# Altium footprint library PCB11.PcbLib: 36 footprints (part 2 of 3)
Each footprint in its own frame and in the unit in brackets; x right, y up, seen from the top. Pads: shape width x height; smd on the part's side, far side on the other; paste and mask are expansions set on the pad; w line width, h text height; cw(c..) or ccw(c..) is an arc to the next point about the centre after c.
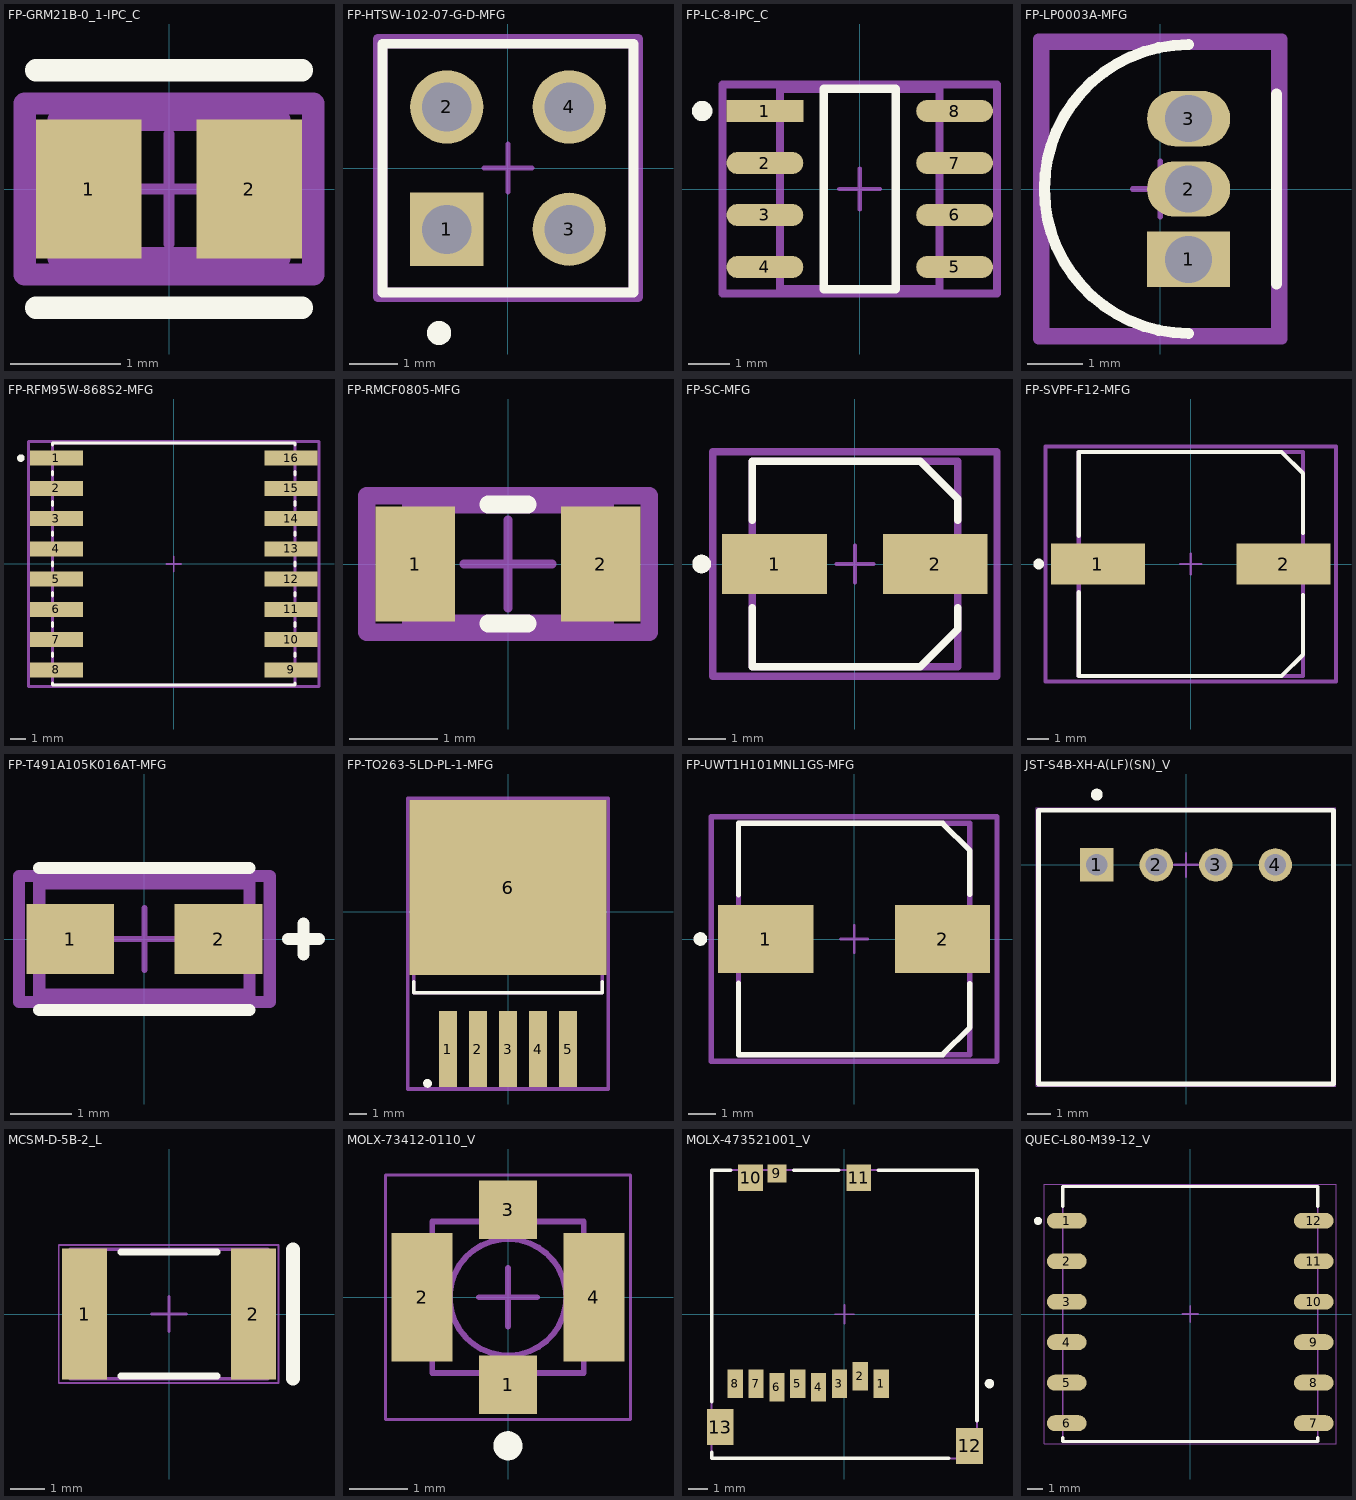
[diagram p1: the footprints below, top view; thin cyan lines are the x and y axes]

## FP-GRM21B-0_1-IPC_C [mm]
pads (2):
  rect 0.958x1.262 smd paste+0 mask+0: 1(-0.727,0) 2(0.727,0)
Top Overlay:
  lines w0.2: -1.206,-1.075 1.206,-1.075 ; -1.206,1.075 1.206,1.075
Top Assembly:
  lines w0.2: -1.306,-0.775 1.306,-0.775 1.306,0.775 -1.306,0.775 -1.306,-0.775
Top 3D Body:
  lines w0.2: -1,-0.625 1,-0.625 1,0.625 -1,0.625 -1,-0.625
Top Courtyard:
  lines w0.2: -1.306,-0.775 1.306,-0.775 1.306,0.775 -1.306,0.775 -1.306,-0.775
Top Component Center:
  lines w0.1: -0.5,0 0.5,0 ; 0,-0.5 0,0.5
3D body "Cap_Murata_GRM21BR61C106KE15K_eec.STEP": height 0.25, standoff 0, extent -1.306,-0.775 1.306,0.775

## FP-HTSW-102-07-G-D-MFG [mm]
pads (4):
  rect 1.52x1.52 hole 1.02 paste-1000 mask+0: 1(-1.27,-1.27)
  round 1.52 hole 1.02 paste-1000 mask+0: 2(-1.27,1.27) 3(1.27,-1.27) 4(1.27,1.27)
Top Overlay:
  circle w0.25: c-1.43,-3.42 r0.125
  lines w0.2: -2.603,-2.58 2.603,-2.58 2.603,2.58 -2.603,2.58 -2.603,-2.58
Top Assembly:
  lines w0.2: -2.703,-2.68 2.704,-2.68 2.704,2.68 -2.703,2.68 -2.703,-2.68
  text ".Designator" at 0,0.188 h1
Top 3D Body:
  lines w0.2: -2.603,-2.58 2.603,-2.58 2.603,2.58 -2.603,2.58 -2.603,-2.58
Top Courtyard:
  lines w0.2: -2.703,-2.68 2.704,-2.68 2.704,2.68 -2.703,2.68 -2.703,-2.68
Top Component Center:
  lines w0.1: -0.5,0 0.5,0 ; 0,-0.5 0,0.5
3D body "Conn_Samtec_HTSW-102-07-G-D_eec.STEP": height 0.25, standoff 0, extent -2.703,-2.68 2.703,2.68

## FP-LC-8-IPC_C [mm]
pads (8):
  rect 1.874x0.542 smd paste+0 mask+0: 1(-2.316,1.905)
  rrect100% 1.874x0.542 smd paste+0 mask+0: 2(-2.316,0.635) 3(-2.316,-0.635) 4(-2.316,-1.905) 5(2.316,-1.905) 6(2.316,-0.635) 7(2.316,0.635) 8(2.316,1.905)
Top Overlay:
  circle w0.25: c-3.85,1.905 r0.125
  lines w0.2: -0.879,-2.45 -0.879,2.45 0.879,2.45 0.879,-2.45 -0.879,-2.45
Top Assembly:
  lines w0.2: -3.353,-2.55 -3.353,2.55 3.353,2.55 3.353,-2.55 -3.353,-2.55
Top 3D Body:
  lines w0.2: -1.95,-2.45 -1.95,2.45 1.95,2.45 1.95,-2.45 -1.95,-2.45
Top Courtyard:
  lines w0.2: -3.353,-2.55 -3.353,2.55 3.353,2.55 3.353,-2.55 -3.353,-2.55
Top Component Center:
  lines w0.1: -0.5,0 0.5,0 ; 0,-0.5 0,0.5
3D body "IC_Allegro_MicroSystems_LLC_ACS713ELCTR-30A-T_eec.STEP": height 0.25, standoff 0, extent -3.353,-2.55 3.353,2.55

## FP-LP0003A-MFG [mm]
pads (3):
  rect 1.5x1 hole 0.85 paste-1000 mask+0: 1(0.51,-1.27)
  rrect100% 1.5x1 hole 0.85 paste-1000 mask+0: 2(0.51,0) 3(0.51,1.27)
Top Overlay:
  lines w0.2: 0.51,-2.605 cw(c0.515,0) 0.51,2.605 ; 2.095,-1.715 2.095,1.715
Top Assembly:
  lines w0.2: -2.195,-2.705 -2.195,2.705 2.195,2.705 2.195,-2.705 -2.195,-2.705
Top 3D Body:
  lines w0.2: -2.095,-2.605 -2.095,2.605 2.095,2.605 2.095,-2.605 -2.095,-2.605
Top Courtyard:
  lines w0.2: -2.195,-2.705 -2.195,2.705 2.195,2.705 2.195,-2.705 -2.195,-2.705
Top Component Center:
  lines w0.1: -0.5,0 0.5,0 ; 0,-0.5 0,0.5
3D body "IC_Texas_Instruments_LM34CZ-NOPB_eec.STEP": height 0.25, standoff 0, extent -2.195,-2.705 2.195,2.705

## FP-RFM95W-868S2-MFG [mm]
pads (16):
  rect 3.5x1 smd paste+0 mask+0: 1(-7.75,7) 2(-7.75,5) 3(-7.75,3) 4(-7.75,1) 5(-7.75,-1) 6(-7.75,-3) 7(-7.75,-5) 8(-7.75,-7) 9(7.75,-7) 10(7.75,-5) 11(7.75,-3) 12(7.75,-1) 13(7.75,1) 14(7.75,3) 15(7.75,5) 16(7.75,7)
Top Overlay:
  circle w0.25: c-10.1,7 r0.125
  lines w0.2: -8,-7.875 -8,-8 8,-8 8,-7.875 ; -8,-6.125 -8,-5.875 ; -8,-4.125 -8,-3.875 ; -8,-2.125 -8,-1.875 ; -8,-0.125 -8,0.125 ; -8,1.875 -8,2.125 ; -8,3.875 -8,4.125 ; -8,5.875 -8,6.125 ; -8,7.875 -8,8 8,8 8,7.875 ; 8,-6.125 8,-5.875 ; 8,-4.125 8,-3.875 ; 8,-2.125 8,-1.875 ; 8,-0.125 8,0.125 ; 8,1.875 8,2.125 ; 8,3.875 8,4.125 ; 8,5.875 8,6.125
Top Assembly:
  lines w0.2: -9.6,-8.1 -9.6,8.1 9.6,8.1 9.6,-8.1 -9.6,-8.1
Top 3D Body:
  lines w0.2: -8,-8 -8,8 8,8 8,-8 -8,-8
Top Courtyard:
  lines w0.2: -9.6,-8.1 -9.6,8.1 9.6,8.1 9.6,-8.1 -9.6,-8.1
Top Component Center:
  lines w0.1: -0.5,0 0.5,0 ; 0,-0.5 0,0.5
3D body "UNK_RF_Solutions_RFM95W-868S2_eec.STEP": height 0.25, standoff 0, extent -9.6,-8.1 9.6,8.1

## FP-RMCF0805-MFG [mm]
pads (2):
  rect 0.9x1.3 smd paste+0 mask+0: 1(-1.05,0) 2(1.05,0)
Top Overlay:
  lines w0.2: -0.225,-0.675 0.225,-0.675 ; -0.225,0.675 0.225,0.675
Top Assembly:
  lines w0.2: -1.6,-0.775 1.6,-0.775 1.6,0.775 -1.6,0.775 -1.6,-0.775
  text ".Designator" at 0,0.188 h1
Top 3D Body:
  lines w0.2: -1.1,-0.675 1.1,-0.675 1.1,0.675 -1.1,0.675 -1.1,-0.675
Top Courtyard:
  lines w0.2: -1.6,-0.775 1.6,-0.775 1.6,0.775 -1.6,0.775 -1.6,-0.775
Top Component Center:
  lines w0.1: -0.5,0 0.5,0 ; 0,-0.5 0,0.5
3D body "Res_Stackpole_Electronics_RMCF0805ZT0R00_eec.STEP": height 0.25, standoff 0, extent -1.6,-0.775 1.6,0.775

## FP-SC-MFG [mm]
pads (2):
  rect 2.8x1.6 smd paste+0 mask+0: 1(-2.15,0) 2(2.15,0)
Top Overlay:
  circle w0.25: c-4.1,0 r0.125
  lines w0.2: -2.75,-1.175 -2.75,-2.75 1.75,-2.75 2.75,-1.75 2.75,-1.175 ; -2.75,1.175 -2.75,2.75 1.75,2.75 2.75,1.75 2.75,1.175
Top Assembly:
  lines w0.2: -3.8,-3 -3.8,3 3.8,3 3.8,-3 -3.8,-3
Top 3D Body:
  lines w0.2: -2.75,-2.75 -2.75,2.75 2.75,2.75 2.75,-2.75 -2.75,-2.75
Top Courtyard:
  lines w0.2: -3.8,-3 -3.8,3 3.8,3 3.8,-3 -3.8,-3
Top Component Center:
  lines w0.1: -0.5,0 0.5,0 ; 0,-0.5 0,0.5
3D body "Cap_Panasonic_Electronic_Components_EEE-1AA101WR_eec.STEP": height 0.25, standoff 0, extent -3.8,-3 3.8,3

## FP-SVPF-F12-MFG [mm]
pads (2):
  rect 4.4x1.9 smd paste+0 mask+0: 1(-4.35,0) 2(4.35,0)
Top Overlay:
  circle w0.25: c-7.125,0 r0.125
  lines w0.2: -5.25,-1.325 -5.25,-5.25 4.25,-5.25 5.25,-4.25 5.25,-1.45 ; -5.25,1.325 -5.25,5.25 4.25,5.25 5.25,4.25 5.25,1.45
Top Assembly:
  lines w0.2: -6.8,-5.5 -6.8,5.5 6.8,5.5 6.8,-5.5 -6.8,-5.5
Top 3D Body:
  lines w0.2: -5.25,-5.25 -5.25,5.25 5.25,5.25 5.25,-5.25 -5.25,-5.25
Top Courtyard:
  lines w0.2: -6.8,-5.5 -6.8,5.5 6.8,5.5 6.8,-5.5 -6.8,-5.5
Top Component Center:
  lines w0.1: -0.5,0 0.5,0 ; 0,-0.5 0,0.5
3D body "Cap_Panasonic_16SVPF1000M_eec.STEP": height 0.25, standoff 0, extent -6.8,-5.5 6.8,5.5

## FP-T491A105K016AT-MFG [mm]
pads (2):
  rect 1.42x1.13 smd paste+0 mask+0: 1(-1.2,0) 2(1.2,0)
Top Overlay:
  lines w0.2: -1.7,-1.15 1.7,-1.15 ; -1.7,1.15 1.7,1.15 ; 2.325,0 2.825,0 ; 2.575,-0.25 2.575,0.25
Top Assembly:
  lines w0.2: -2.03,-1.02 -2.03,1.02 2.03,1.02 2.03,-1.02 -2.03,-1.02
Top 3D Body:
  lines w0.2: -1.7,-0.9 -1.7,0.9 1.7,0.9 1.7,-0.9 -1.7,-0.9
Top Courtyard:
  lines w0.2: -2.03,-1.02 -2.03,1.02 2.03,1.02 2.03,-1.02 -2.03,-1.02
Top Component Center:
  lines w0.1: -0.5,0 0.5,0 ; 0,-0.5 0,0.5
3D body "Cap_Kemet_T491A105K016AT_eec.STEP": height 0.25, standoff 0, extent -2.03,-1.02 2.03,1.02

## FP-TO263-5LD-PL-1-MFG [mm]
pads (6):
  rect 1.02x4.32 smd paste+0 mask+0: 1(-3.4,-7.79) 2(-1.7,-7.79) 3(0,-7.79) 4(1.7,-7.79) 5(3.4,-7.79)
  rect 11.18x9.91 smd paste+0 mask+0: 6(0,1.355)
Top Overlay:
  circle w0.25: c-4.559,-9.73 r0.125
  lines w0.2: -5.334,-3.975 -5.334,-4.584 5.334,-4.584 5.334,-3.975
Top Assembly:
  lines w0.2: -5.69,-10.05 -5.69,6.41 5.69,6.41 5.69,-10.05 -5.69,-10.05
Top 3D Body:
  lines w0.2: -5.334,-4.584 -5.334,4.584 5.334,4.584 5.334,-4.584 -5.334,-4.584
Top Courtyard:
  lines w0.2: -5.69,-10.05 -5.69,6.41 5.69,6.41 5.69,-10.05 -5.69,-10.05
Top Component Center:
  lines w0.1: -0.5,0 0.5,0 ; 0,-0.5 0,0.5
3D body "IC_Microchip_LM2576-12WU-TR_eec.STEP": height 0.25, standoff 0, extent -5.69,-10.05 5.69,6.41

## FP-UWT1H101MNL1GS-MFG [mm]
pads (2):
  rect 3.5x2.5 smd paste+0 mask+0: 1(-3.25,0) 2(3.25,0)
Top Overlay:
  circle w0.25: c-5.65,0 r0.125
  lines w0.2: -4.25,-1.625 -4.25,-4.25 3.25,-4.25 4.25,-3.25 4.25,-1.65 ; -4.25,1.625 -4.25,4.25 3.25,4.25 4.25,3.25 4.25,1.65
Top Assembly:
  lines w0.2: -5.25,-4.5 -5.25,4.5 5.25,4.5 5.25,-4.5 -5.25,-4.5
Top 3D Body:
  lines w0.2: -4.25,-4.25 -4.25,4.25 4.25,4.25 4.25,-4.25 -4.25,-4.25
Top Courtyard:
  lines w0.2: -5.25,-4.5 -5.25,4.5 5.25,4.5 5.25,-4.5 -5.25,-4.5
Top Component Center:
  lines w0.1: -0.5,0 0.5,0 ; 0,-0.5 0,0.5
3D body "Cap_Nichicon_UWT1H101MNL1GS_eec.STEP": height 0.25, standoff 0, extent -5.25,-4.5 5.25,4.5

## JST-S4B-XH-A(LF)(SN)_V [mm] "Header, 4-Leads, Body 12.4x11.5mm, Pitch 2.5mm"
height 6.1
pads (4):
  rect 1.4x1.4 hole 0.9: 1(-3.75,0)
  round 1.4 hole 0.9: 2(-1.25,0) 3(1.25,0) 4(3.75,0)
Top Overlay:
  circle w0.25: c-3.75,2.95 r0.125
  lines w0.2: -6.197,2.3 -6.2,2.3 ; -6.2,2.3 6.2,2.3 6.2,-9.2 -6.2,-9.2 -6.2,2.3
Top 3D Body:
  lines w0.1: -6.2,-9.2 -6.2,2.3 6.2,2.3 6.2,-9.2 -6.2,-9.2
Top Courtyard:
  lines w0.05: -6.3,-9.3 -6.3,2.4 6.3,2.4 6.3,-9.3 -6.3,-9.3
  lines w0.1: -0.5,0 0.5,0 ; 0,-0.5 0,0.5
3D body "S4B-XH-A.STEP": height 6.15, standoff -3.4, extent -6.2,-9.2 6.2,2.3

## MCSM-D-5B-2_L [mm] "MELF Diode, 2-Leads, Body 5.72x3.76mm, IPC High Density"
height 3.76
pads (2):
  rect 1.3x3.8 smd: 1(-2.45,0) 2(2.45,0)
Top Overlay:
  lines w0.2: -1.4,-1.8 1.4,-1.8 ; -1.4,1.8 1.4,1.8
  lines w0.4: 3.6,-1.88 3.6,1.88
Top 3D Body:
  lines w0.1: -2.86,-1.88 -2.86,1.88 2.86,1.88 2.86,-1.88 -2.86,-1.88
Top Courtyard:
  lines w0.05: -3.2,-2 -3.2,2 3.175,2 3.175,-2 -3.2,-2
  lines w0.1: -0.5,0 0.5,0 ; 0,-0.5 0,0.5
3D body "DIOMELF5436L.step": height 3.62, standoff 0, extent -2.7,-1.81 2.7,1.81

## MOLX-73412-0110_V [mm] "MCRF, 4-Leads, Body 2.6x2.6mm"
height 1.3
pads (4):
  rect 1x1 smd: 1(0,-1.5) 3(0,1.5)
  rect 1.05x2.2 smd: 2(-1.475,0) 4(1.475,0)
Top Overlay:
  circle w0.25: c0,-2.55 r0.125
Top 3D Body:
  circle w0.1: c0,0 r1
  lines w0.1: -1.299,-1.299 -1.299,1.3 1.3,1.3 1.3,-1.299 -1.299,-1.299
Top Courtyard:
  lines w0.05: -2.1,-2.1 2.1,-2.1 2.1,2.1 -2.1,2.1 -2.1,-2.1
  lines w0.1: -0.5,0 0.5,0 ; 0,-0.5 0,0.5
3D body: height 1, standoff 0.1, extent -0.254,-0.254 0.254,0.254
3D body: height 1.3, standoff 0.1, extent -1.126,-1.141 1.102,1.088
3D body: height 1.3, standoff 0.1, extent -1.124,-1.139 1.104,1.09
3D body: height 0.35, standoff 0, extent -1.299,-1.299 1.3,1.3

## MOLX-473521001_V [mm] "SMD, 8-Leads, Body 15.2x14mm, Pitch 1.1mm"
height 1.88
pads (13):
  rect 0.8x1.5 smd: 1(1.94,-3.66) 2(0.84,-3.26) 3(-0.26,-3.66) 4(-1.36,-3.86) 5(-2.46,-3.66) 6(-3.56,-3.86) 7(-4.66,-3.66) 8(-5.76,-3.66)
  rect 1x0.95 smd: 9(-3.56,7.425)
  rect 1.3x1.4 smd: 10(-4.95,7.2) 11(0.75,7.2)
  rect 1.4x1.9 smd: 12(6.6,-6.95) 13(-6.55,-5.95)
Top Overlay:
  circle w0.25: c7.65,-3.66 r0.125
  lines w0.2: -7,-7.3 -7,-7.6 5.5,-7.6 ; -7,-4.6 -7,7.6 -6,7.6 ; -2.66,7.6 -0.3,7.6 ; 1.8,7.6 7,7.6 7,-5.6
Top 3D Body:
  lines w0.1: -7,-7.6 7,-7.6 7,7.6 -7,7.6 -7,-7.6
Top Courtyard:
  lines w0.1: -0.5,0 0.5,0 ; 0,-0.5 0,0.5
3D body "473521001.stp": height 1.85, standoff -0.03, extent -7.05,-7.6 7.05,7.6

## QUEC-L80-M39-12_V [mm] "SMD, 12-Leads, Body 16x16mm, Pitch 2.54mm"
height 6.45
pads (12):
  rrect100% 2.5x1 smd: 1(-7.75,5.85) 2(-7.75,3.31) 3(-7.75,0.77) 4(-7.75,-1.77) 5(-7.75,-4.31) 6(-7.75,-6.85) 7(7.75,-6.85) 8(7.75,-4.31) 9(7.75,-1.77) 10(7.75,0.77) 11(7.75,3.31) 12(7.75,5.85)
Top Overlay:
  circle w0.25: c-9.55,5.842 r0.125
  lines w0.2: -8,-7.75 -8,-8 8,-8 8,-7.75 ; -8,6.75 -8,8 8,8 8,6.75
Top 3D Body:
  lines w0.1: -8,-8 8,-8 8,8 -8,8 -8,-8
Top Courtyard:
  lines w0.05: -9.15,-8.15 -9.15,8.15 9.15,8.15 9.15,-8.15 -9.15,-8.15
  lines w0.1: -0.5,0 0.5,0 ; 0,-0.5 0,0.5
3D body "L80-M39--3DModel-STEP-56544.STEP": height 7.05, standoff 0, extent -8,-8 8,8